# EAGLE library part LTD-5623AG (library magzor)
Lite-On LTD-5623AG LED Display 2 Digit, Green don't forget to set the >LABEL attribute
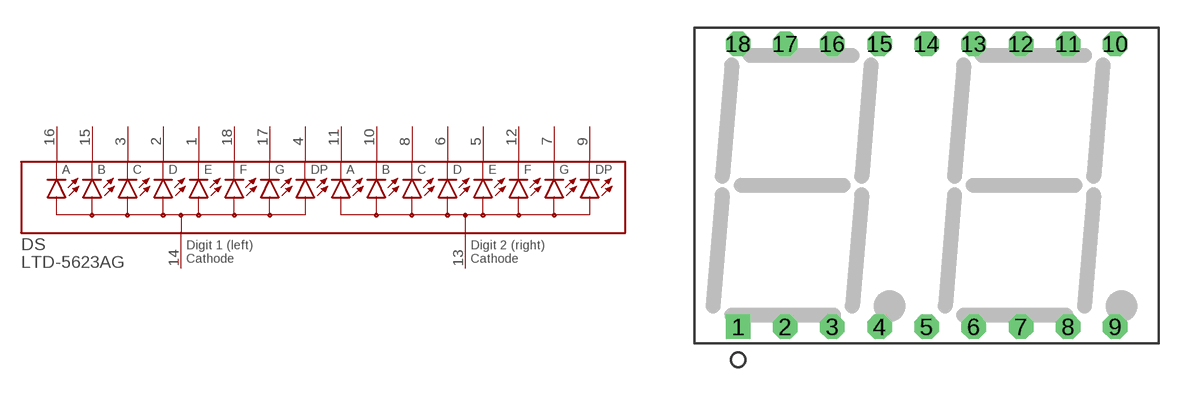
[diagram p33: symbol with the pads of LTD-5623AG; footprint LTD-5623AG]

Designator prefix DS

## LTD-5623AG  [LTD-5623AG]
1  1.E  pas
2  1.D  pas
3  1.C  pas
4  1.DP  pas
5  2.E
6  2.D
7  2.G
8  2.C
9  2.DP
10  2.B
11  2.A
12  2.F
13  2.CATHODE  pas
14  1.CATHODE  pas
15  1.B  pas
16  1.A  pas
17  1.G  pas
18  1.F  pas

## Footprint LTD-5623AG (pad centres in mm)
Lite-On LTD-5623AG 7 segment LED display, 2 digit, green >LABEL is actually on tValues
drill 0.813 square: 1 -10.16,-7.62
drill 0.813 octagon: 2 -7.62,-7.62; 3 -5.08,-7.62; 4 -2.54,-7.62; 5 0,-7.62; 6 2.54,-7.62; 7 5.08,-7.62; 8 7.62,-7.62; 9 10.16,-7.62; 10 10.16,7.62; 11 7.62,7.62; 12 5.08,7.62; 13 2.54,7.62; 14 0,7.62; 15 -2.54,7.62; 16 -5.08,7.62; 17 -7.62,7.62; 18 -10.16,7.62